# EAGLE library part 8_PIN_CONN (library BMS Lbr)
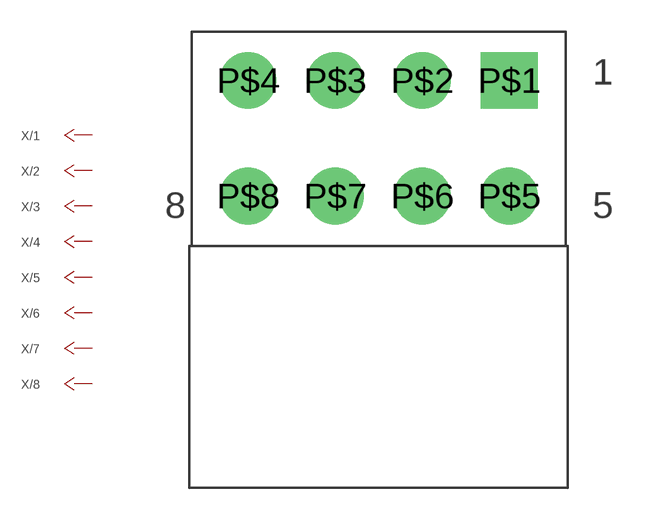
[diagram p5: symbol with the pads of 8_PIN_MOLEX; footprint 8_PIN_MOLEX]

Designator prefix X; gates /1=CONN_PIN /2=CONN_PIN /3=CONN_PIN /4=CONN_PIN /5=CONN_PIN /6=CONN_PIN /7=CONN_PIN /8=CONN_PIN

## 8_PIN_CONN  [8_PIN_MOLEX]
P$1  /1:$/1
P$2  /2:$/1
P$3  /3:$/1
P$4  /4:$/1
P$5  /5:$/1
P$6  /6:$/1
P$7  /7:$/1
P$8  /8:$/1

## Footprint 8_PIN_MOLEX (pad centres in mm)
drill 1.8 square: P$1 6.21,2.75
drill 1.8: P$2 2.07,2.75; P$3 -2.07,2.75; P$4 -6.21,2.75; P$5 6.21,-2.75; P$6 2.07,-2.75; P$7 -2.07,-2.75; P$8 -6.21,-2.75